# EAGLE library part INSTAMP_LT1167 (library akita)
LinerTech LT1167
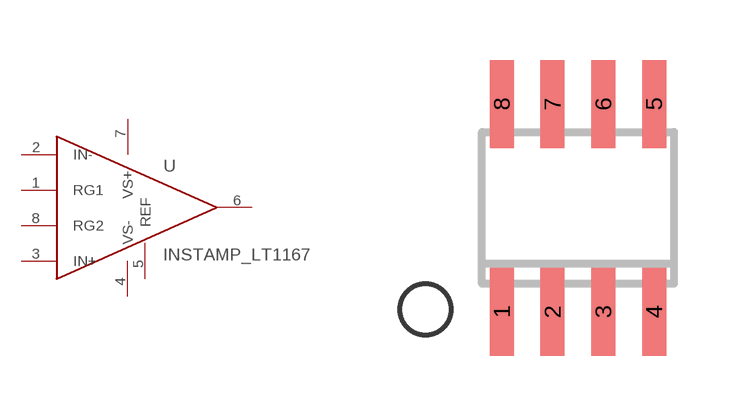
[diagram p152: symbol with the pads of SO08; footprint SO08]

Designator prefix U

## INSTAMP_LT1167  [SO08]
1  RG1
2  IN-
3  IN+
4  VS-
5  REF
6  VO
7  VS+
8  RG2

## Footprint SO08 (pad centres in mm)
SMALL OUTLINE INTEGRATED CIRCUIT body 3.9 mm/JEDEC MS-012AA
smd 0.6 x 2.2: 1 -1.905,-2.6; 2 -0.635,-2.6; 3 0.635,-2.6; 4 1.905,-2.6; 5 1.905,2.6; 6 0.635,2.6; 7 -0.635,2.6; 8 -1.905,2.6